# EAGLE library part 74HC14 (library ArdDisp)
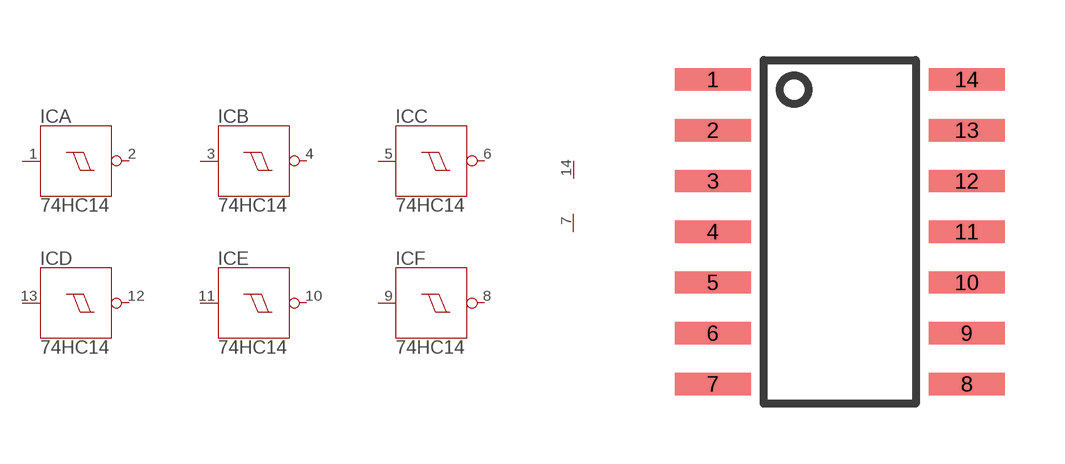
[diagram p2: symbol with the pads of SO14; footprint SO14]

Designator prefix IC; gates A=7414 B=7414 C=7414 D=7414 E=7414 F=7414 G$7=PWRN

## 74HC14D  [SO14]
1  A:I  in
2  A:O  out
3  B:I  in
4  B:O  out
5  C:I  in
6  C:O  out
7  G$7:GND  in
8  F:O  out
9  F:I  in
10  E:O  out
11  E:I  in
12  D:O  out
13  D:I  in
14  G$7:VCC  in

## Footprint SO14 (pad centres in mm)
Pady jsou v mil/12.5 rozmery nejsou overeny se skutecnosti
smd 1.905 x 0.559: 1 -3.175,3.81; 2 -3.175,2.54; 3 -3.175,1.27; 4 -3.175,0; 5 -3.175,-1.27; 6 -3.175,-2.54; 7 -3.175,-3.81; 8 3.175,-3.81; 9 3.175,-2.54; 10 3.175,-1.27; 11 3.175,0; 12 3.175,1.27; 13 3.175,2.54; 14 3.175,3.81